# Altium schematic symbol library TPS563201DDCR.SchLib: 1 symbol
Pins are listed as number, name and electrical type; pins without a type are passive.

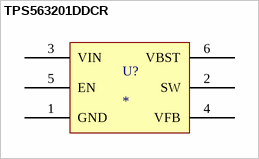
[diagram p0: symbol TPS563201DDCR]

## TPS563201DDCR
designator U?
4.5 V to 17 V input, 3 A output, synchronous step-down converter in Eco-mode
pins: 1 GND, 2 SW, 3 VIN, 4 VFB, 5 EN, 6 VBST